# Altium footprint library LEDs.PcbLib: 13 footprints
Each footprint in its own frame and in the unit in brackets; x right, y up, seen from the top. Pads: shape width x height; smd on the part's side, far side on the other; paste and mask are expansions set on the pad; w line width, h text height; cw(c..) or ccw(c..) is an arc to the next point about the centre after c.
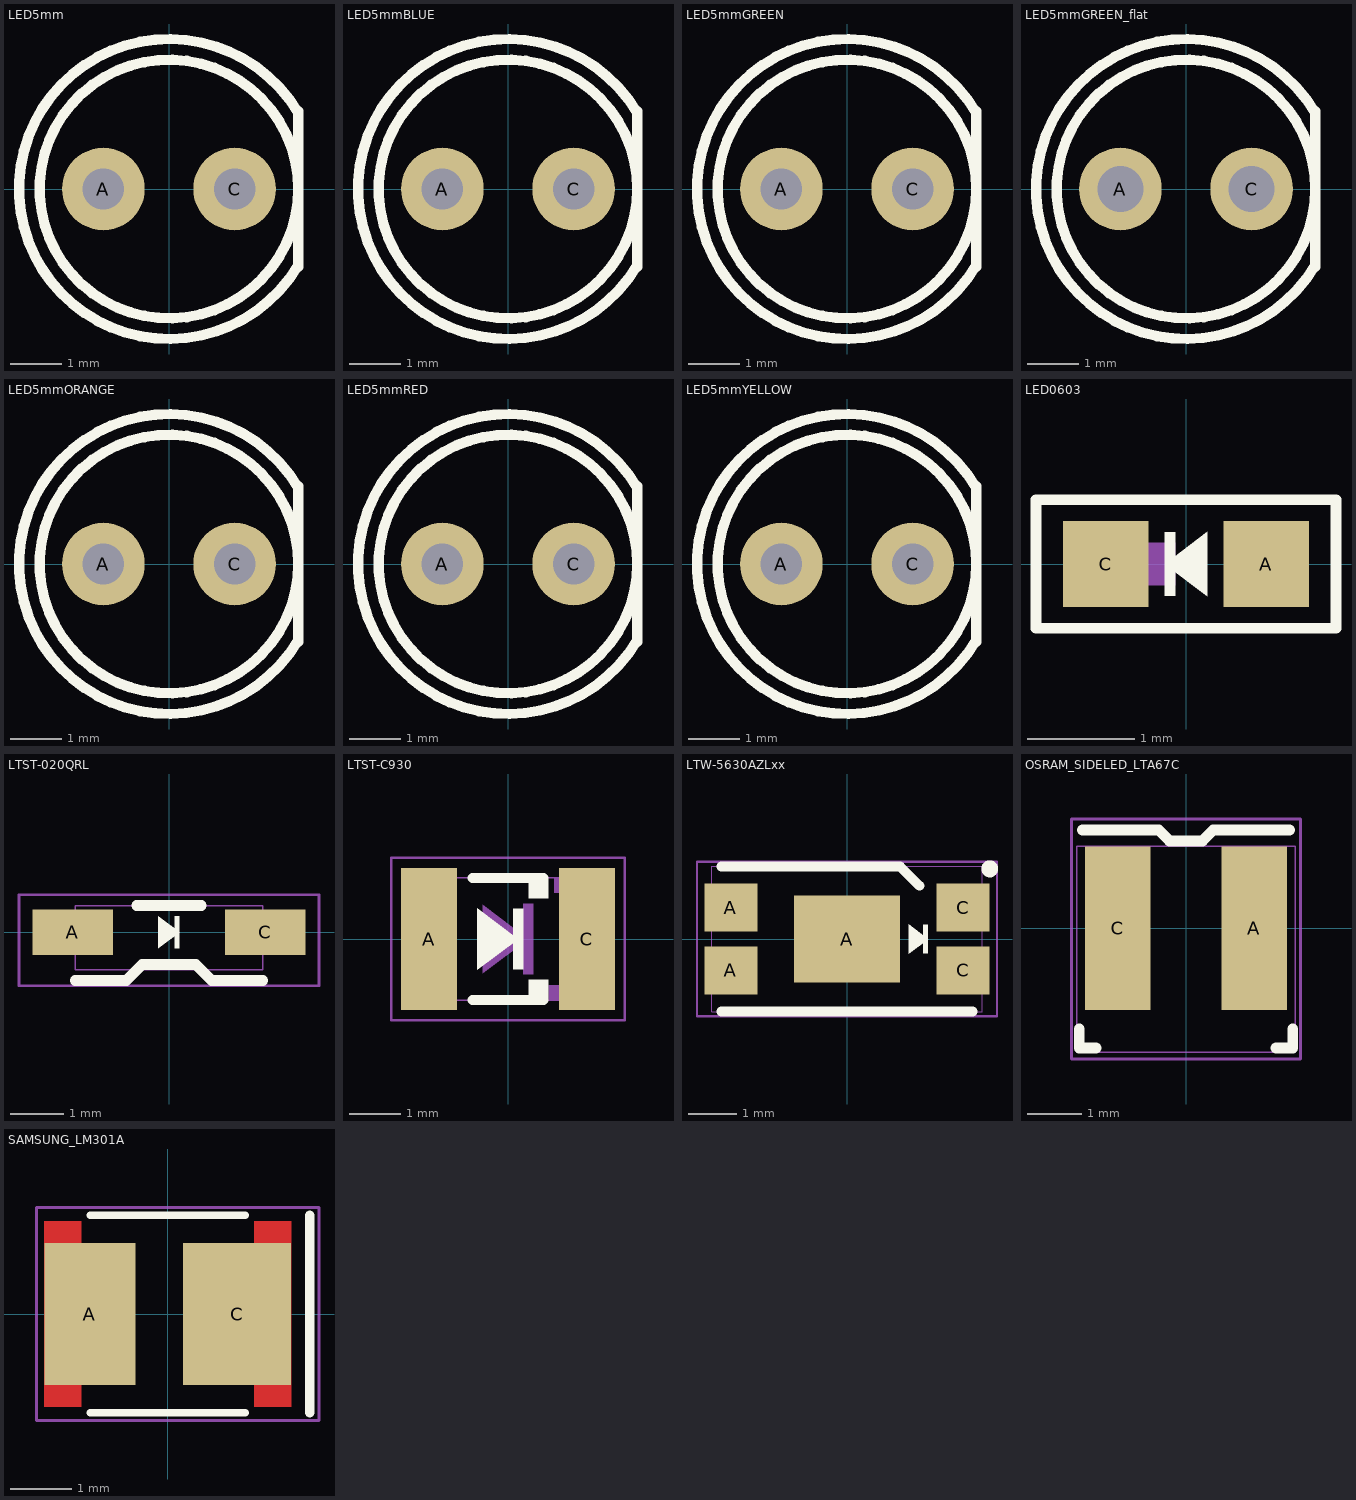
[diagram p0: the footprints below, top view; thin cyan lines are the x and y axes]

## LED5mm [mm] "LED; 2 Leads"
height 6.86
pads (2):
  round 1.6 hole 0.8: A(-1.27,0) C(1.27,0)
Top Overlay:
  circle w0.2: c0,0 r2.5
  lines w0.2: 2.487,-1.492 cw(c0,0) 2.487,1.492 ; 2.5,-1.5 2.5,1.5
3D body "SW3dPS-LEDd5C.STEP": height 12.41, standoff -2.39, extent -2.98,-3.01 2.44,3.01

## LED5mmBLUE [mm] "LED; 2 Leads"
height 6.86
pads (2):
  round 1.6 hole 0.8: A(-1.27,0) C(1.27,0)
Top Overlay:
  circle w0.2: c0,0 r2.5
  lines w0.2: 2.487,-1.492 cw(c0,0) 2.487,1.492 ; 2.5,-1.5 2.5,1.5
3D body "User Library-LEDd5B.STEP": height 12.41, standoff -2.39, extent -2.98,-3.01 2.44,3.01

## LED5mmGREEN [mm] "LED; 2 Leads"
height 6.86
pads (2):
  round 1.6 hole 0.8: A(-1.27,0) C(1.27,0)
Top Overlay:
  circle w0.2: c0,0 r2.5
  lines w0.2: 2.487,-1.492 cw(c0,0) 2.487,1.492 ; 2.5,-1.5 2.5,1.5
3D body "SW3dPS-LEDd5G.STEP": height 12.41, standoff -2.39, extent -2.98,-3.01 2.44,3.01

## LED5mmGREEN_flat [mm] "LED; 2 Leads"
height 6.86
pads (2):
  round 1.6 hole 0.889: A(-1.27,0) C(1.27,0)
Top Overlay:
  circle w0.2: c0,0 r2.5
  lines w0.2: 2.487,-1.492 cw(c0,0) 2.487,1.492 ; 2.5,-1.5 2.5,1.5
3D body "SW3dPS-LEDd5G.STEP": height 8.66, standoff -6.14, extent -2.98,-3.01 2.44,3.01

## LED5mmORANGE [mm] "LED; 2 Leads"
height 6.86
pads (2):
  round 1.6 hole 0.8: A(-1.27,0) C(1.27,0)
Top Overlay:
  circle w0.2: c0,0 r2.5
  lines w0.2: 2.487,-1.492 cw(c0,0) 2.487,1.492 ; 2.5,-1.5 2.5,1.5
3D body "SW3dPS-LEDd5O.STEP": height 12.41, standoff -2.39, extent -2.98,-3.01 2.44,3.01

## LED5mmRED [mm] "LED; 2 Leads"
height 6.86
pads (2):
  round 1.6 hole 0.8: A(-1.27,0) C(1.27,0)
Top Overlay:
  circle w0.2: c0,0 r2.5
  lines w0.2: 2.487,-1.492 cw(c0,0) 2.487,1.492 ; 2.5,-1.5 2.5,1.5
3D body "SW3dPS-LEDd5R.STEP": height 12.41, standoff -2.39, extent -2.98,-3.01 2.44,3.01

## LED5mmYELLOW [mm] "LED; 2 Leads"
height 6.86
pads (2):
  round 1.6 hole 0.8: A(-1.27,0) C(1.27,0)
Top Overlay:
  circle w0.2: c0,0 r2.5
  lines w0.2: 2.487,-1.492 cw(c0,0) 2.487,1.492 ; 2.5,-1.5 2.5,1.5
3D body "SW3dPS-LEDd5Y.STEP": height 12.41, standoff -2.39, extent -2.98,-3.01 2.44,3.01

## LED0603 [mm] "Chip Diode, 2-Leads, Body 1.60x0.80mm, IPC Medium Density"
height 0.36
pads (2):
  rect 0.8x0.8 smd: A(0.75,0) C(-0.75,0)
Top Overlay:
  rectangle: -0.2,-0.3 -0.1,0.3
  region: 0.2,0.3 0.2,-0.3 -0.2,0
  lines w0.1: -1.4,-0.6 1.4,-0.6 1.4,0.6 -1.4,0.6 -1.4,-0.6
Mechanical 13:
  rectangle: -0.4,-0.2 -0.1,0.2
  region: 0.8,0.4 0.4,0.4 0.4,-0.4 0.8,-0.4
  rectangle: -0.8,-0.4 -0.4,0.4
Mechanical 15:
  lines w0.05: -1.4,-0.6 -1.4,0.6 1.4,0.6 1.4,-0.6 -1.4,-0.6
  text ".Designator" at -1.3,-0.3 h1
3D body "User Library-LED_0603_WS.STEP": height 0.6, standoff 0, extent -0.8,-0.4 0.8,0.4

## LTST-020QRL [mm]
pads (2):
  rect 1.5x0.85 smd: A(-1.8,0) C(1.8,0)
Top Overlay:
  region: 0.2,0.3 0.1,0.3 0.1,-0.3 0.2,-0.3
  region: -0.2,-0.3 -0.2,0.3 0.2,0
  lines w0.2: -1.75,-0.9 -0.8,-0.9 -0.5,-0.6 0.5,-0.6 0.8,-0.9 1.75,-0.9 ; -0.6,0.5 0.6,0.5
Mechanical 13:
  lines w0.025: -1.75,-0.7 1.75,-0.7 1.75,0.5 -1.75,0.5 -1.75,-0.7
Mechanical 15:
  lines w0.05: -2.8,-1 -2.8,0.7 2.8,0.7 2.8,-1 -2.8,-1
  text ".Designator" at -2.2,-0.3 h1
3D body "User Library-020.STEP": height 0.6, standoff 0, extent -1.9,-0.82 1.9,0.38

## LTST-C930 [mm]
pads (2):
  rect 1.1x2.8 smd: A(-1.55,0) C(1.55,0)
Top Overlay:
  region: 0.3,0.6 0.1,0.6 0.1,-0.6 0.3,-0.6
  rectangle: 0.4,-1.2 0.8,-0.8
  region: 0.8,1.2 0.4,1.2 0.4,0.8 0.8,0.8
  region: -0.6,-0.6 -0.6,0.6 0.2,0
  lines w0.2: -0.7,-1.2 0.7,-1.2 ; -0.7,1.2 0.7,1.2
Mechanical 13:
  region: 0.5,0.7 0.3,0.7 0.3,-0.7 0.5,-0.7
  rectangle: 0.8,-1.2 1.1,-0.9
  rectangle: 0.9,0.9 1.2,1.2
  region: -0.5,-0.675 -0.5,0.675 0.4,0
  lines w0.025: -1.6,-1.2 1.6,-1.2 1.6,1.2 -1.6,1.2 -1.6,-1.2
Mechanical 15:
  lines w0.05: -2.3,-1.6 2.3,-1.6 2.3,1.6 -2.3,1.6 -2.3,-1.6
  text ".Designator" at -2.3,-0.2 h1
3D body "User Library-Liteon smt LED LTST-C930KAKT.step": height 2.45, standoff 0.05, extent -1.6,-1.2 1.6,1.2

## LTW-5630AZLxx [mm]
pads (5):
  rect 1.1x1 smd: A(-2.4,-0.65) A(-2.4,0.65) C(2.4,-0.65) C(2.4,0.65)
  rect 2.2x1.8 smd: A(0,0)
Top Overlay:
  circle w0.25: c2.95,1.45 r0.05
  region: 1.675,0.3 1.575,0.3 1.575,-0.3 1.675,-0.3
  region: 1.275,-0.3 1.275,0.3 1.675,0
  lines w0.2: -2.6,-1.5 2.6,-1.5 ; -2.6,1.5 1.1,1.5 1.5,1.1
Mechanical 13:
  lines w0.025: -2.8,-1.5 2.8,-1.5 2.8,1.5 -2.8,1.5 -2.8,-1.5
Mechanical 15:
  lines w0.05: -3.1,-1.6 -3.1,1.6 3.1,1.6 3.1,-1.6 -3.1,-1.6
  text ".Designator" at -2.3,-0.2 h1
3D body "LTW-5630XXXXX.STEP": height 0.92, standoff 0.02, extent -2.8,-1.5 2.8,1.5

## OSRAM_SIDELED_LTA67C [mm]
pads (2):
  rect 1.2x3 smd: A(1.25,0) C(-1.25,0)
Top Overlay:
  lines w0.2: -1.957,-1.85 -1.957,-2.2 -1.651,-2.2 ; -1.9,1.8 -0.5,1.8 -0.3,1.6 0.3,1.6 0.5,1.8 1.9,1.8 ; 1.651,-2.2 1.957,-2.2 1.957,-1.85
Mechanical 13:
  lines w0.025: -2,-2.275 2.007,-2.275 2.007,1.5 -2,1.5 -2,-2.275
Mechanical 15:
  lines w0.05: -2.1,-2.4 -2.1,2 2.1,2 2.1,-2.4 -2.1,-2.4
  text ".Designator" at -1.4,-0.3 h1
3D body "User Library-LED OSRAM sideled.step": height 4.03, standoff 0, extent -2,-2.261 2,1.504

## SAMSUNG_LM301A [mm] "SAMSUNG_LM301A"
pads (2):
  rect 1.48x2.3 smd: A(-1.26,0)
  rect 1.75x2.3 smd: C(1.125,0)
Top Layer:
  region: 2,1.5 2,-1.5 1.4,-1.5 1.4,-0.9 0.5,-0.9 0.5,1 1.4,1 1.4,1.5
  region: -2,1.5 -1.4,1.5 -1.4,1 -1,1 -1.1,-1 -1.4,-1 -1.4,-1.5 -2,-1.5
Top Overlay:
  lines w0.127: -1.25,-1.6 1.25,-1.6 ; -1.25,1.6 1.25,1.6
  lines w0.15: 2.3,-1.6 2.3,1.6
Mechanical 15:
  lines w0.05: -2.125,-1.725 2.45,-1.725 2.45,1.725 -2.125,1.725 -2.125,-1.725
  text ".Designator" at -1.775,-0.175 h0.8
3D body "LM301A.stp": height 0.65, standoff 0, extent -1.5,-1.5 1.5,1.5